# EAGLE library part INTEGRATOR_3INPUT_INIT_THREE_MODE (library analog-computer)
Integrator (three mode) with six inputs One input (top or bottom) is for setting the initial value. One input R (side) is for resetting the integrator. One input S (side) is for holding the integrator.
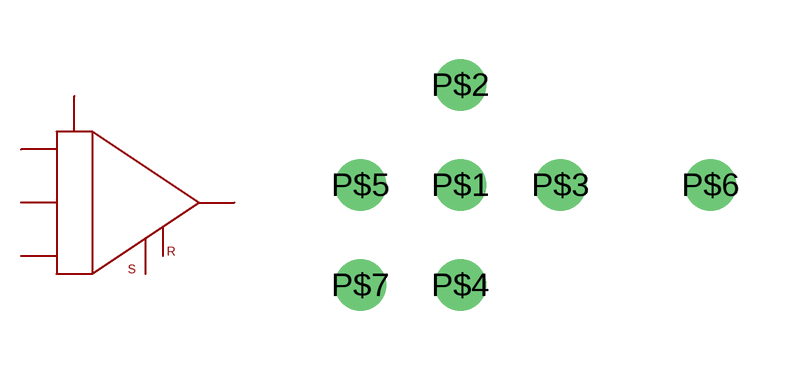
[diagram p0: symbol with the pads of SEVEN_IO; footprint SEVEN_IO]

Designator prefix -

## INTEGRATOR_3INPUT_INIT_THREE_MODE  [SEVEN_IO]
P$1  P$1  in
P$2  P$2  in
P$3  P$3  in
P$4  P$4  in
P$5  P$5  in
P$6  P$6  out
P$7  P$7  in

## Footprint SEVEN_IO (pad centres in mm)
drill 0.8 round: P$1 0,0; P$2 0,2.54; P$3 2.54,0; P$4 0,-2.54; P$5 -2.54,0; P$6 6.35,0; P$7 -2.54,-2.54